# Altium footprint library C0201_PERFECT_2.PcbLib: 1 footprints
Each footprint in its own frame and in the unit in brackets; x right, y up, seen from the top. Pads: shape width x height; smd on the part's side, far side on the other; paste and mask are expansions set on the pad; w line width, h text height; cw(c..) or ccw(c..) is an arc to the next point about the centre after c.
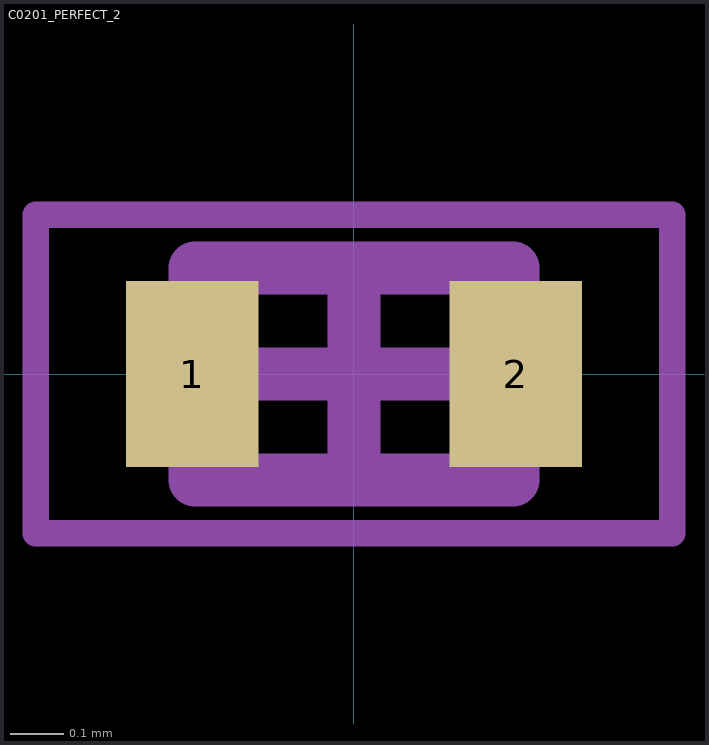
[diagram p0: the footprint, top view; thin cyan lines are the x and y axes]

## C0201_PERFECT_2 [mm]
pads (2):
  rect 0.25x0.35 smd mask+0.05: 1(-0.305,0) 2(0.305,0)
Mechanical 13:
  lines w0.1: -0.3,-0.2 0.3,-0.2 0.3,0.2 -0.3,0.2 -0.3,-0.2
Mechanical 15:
  lines w0.05: -0.6,-0.3 0.6,-0.3 0.6,0.3 -0.6,0.3 -0.6,-0.3
  lines w0.1: -0.2,0 0.2,0 ; 0,-0.2 0,0.2
3D body "CAPC0604X03L.step": height 0.3, standoff 0, extent -0.3,-0.2 0.3,0.2